# EAGLE library part L01ZXXXS05 (library l01z)
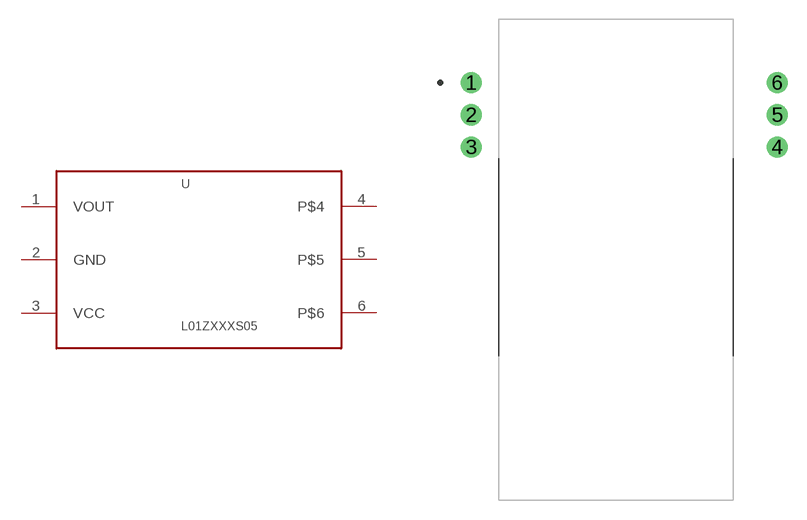
[diagram p0: symbol with the pads of DIP2540W53P254L2900H508Q6B; footprint DIP2540W53P254L2900H508Q6B]

Designator prefix -

## L01ZXXXS05A1  [DIP2540W53P254L2900H508Q6B]
1  VOUT  out
2  GND  pwr
3  VCC  pwr
4  P$4  nc
5  P$5  nc
6  P$6  nc

## Footprint DIP2540W53P254L2900H508Q6B (pad centres in mm)
6-DIP, 2.54 mm (0.10 in) pitch, 25.40 mm (1.00 in) span, 29.00 X 18.50 X 5.08 mm body 6-pin DIP package with 2.54 mm (0.10 in) pitch, 25.40 mm (1.00 in) span with body size 29.00 X 18.50 X 5.08 mm
drill 1 pad 1.676: 1 -11.43,2.54; 2 -11.43,0; 3 -11.43,-2.54; 4 12.7,-2.54; 5 12.7,0; 6 12.7,2.54